# Altium footprint library Leaded.PcbLib: 2 footprints
Each footprint in its own frame and in the unit in brackets; x right, y up, seen from the top. Pads: shape width x height; smd on the part's side, far side on the other; paste and mask are expansions set on the pad; w line width, h text height; cw(c..) or ccw(c..) is an arc to the next point about the centre after c.
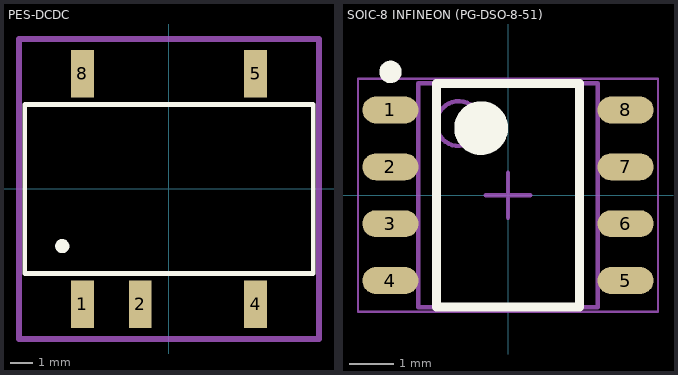
[diagram p0: the footprints below, top view; thin cyan lines are the x and y axes]

## PES-DCDC [mm] "DC/DC CONVERTER"
height 7.25
pads (5):
  rect 1x2.1 smd: 1(-3.81,-5.08) 2(-1.27,-5.08) 4(3.81,-5.08) 5(3.81,5.08) 8(-3.81,5.08)
Top Overlay:
  circle w0.32: c-4.699,-2.515 r0.15
  lines w0.2: -6.35,-3.72 -6.35,3.72 6.35,3.72 6.35,-3.72 -6.35,-3.72
Mechanical 15:
  lines w0.254: -6.604,-6.604 6.604,-6.604 6.604,6.604 -6.604,6.604 -6.604,-6.604
  text "'.Designator'" at -2.54,-0.254 h1
3D body "pes1-s5-s9-m.STEP": height 7, standoff -0.25, extent -6.365,-5.577 6.335,5.667

## SOIC-8 INFINEON (PG-DSO-8-51) [mm] "SOIC, 8-Leads, Body 4.90x3.90mm, Pitch 1.27mm, IPC High Density"
height 1.75
pads (8):
  oval 1.25x0.6 smd: 1(-2.625,1.905) 2(-2.625,0.635) 3(-2.625,-0.635) 4(-2.625,-1.905) 5(2.625,-1.905) 6(2.625,-0.635) 7(2.625,0.635) 8(2.625,1.905)
Top Overlay:
  circle w0.25: c-2.625,2.755 r0.125
  circle w0.6: c-0.6,1.5 r0.3
  lines w0.2: -1.6,-2.5 -1.6,2.5 1.6,2.5 1.6,-2.5 -1.6,-2.5
Mechanical 13:
  circle w0.1: c-1.1,1.6 r0.5
  lines w0.1: -2,-2.5 -2,2.5 2,2.5 2,-2.5 -2,-2.5
Mechanical 15:
  lines w0.05: -3.35,-2.6 -3.35,2.6 3.35,2.6 3.35,-2.6 -3.35,-2.6
  lines w0.1: -0.5,0 0.5,0 ; 0,-0.5 0,0.5
  text "'.Designator'" at -3.35,-0.254 h1
3D body: height 1.75, standoff 0.1, extent -2,-2.5 2,2.5